# Altium footprint library GesturaGloveComponents.PcbLib: 12 footprints
Each footprint in its own frame and in the unit in brackets; x right, y up, seen from the top. Pads: shape width x height; smd on the part's side, far side on the other; paste and mask are expansions set on the pad; w line width, h text height; cw(c..) or ccw(c..) is an arc to the next point about the centre after c.
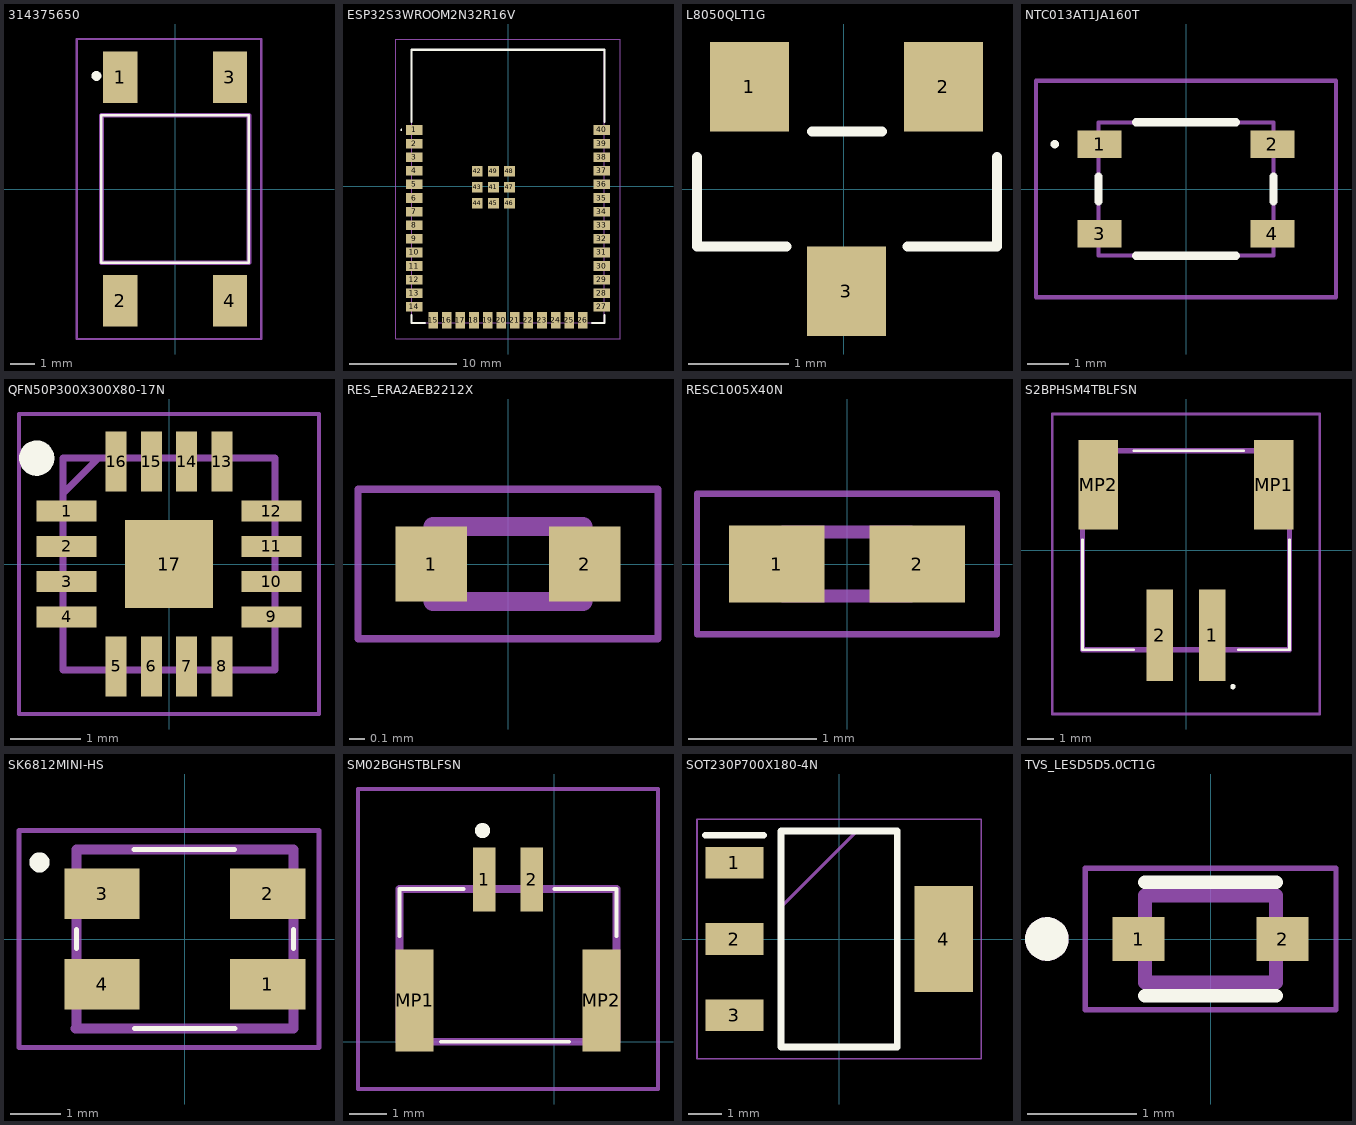
[diagram p0: the footprints below, top view; thin cyan lines are the x and y axes]

## 314375650 [mm]
pads (4):
  rect 1.4x2.1 smd: 1(-2.23,4.55) 2(-2.23,-4.55) 3(2.23,4.55) 4(2.23,-4.55)
Top Overlay:
  lines w0.1: -3,-3 3,-3 3,3 -3,3 -3,-3
  lines w0.2: -3.2,4.5 ccw(c-3.2,4.6) -3.2,4.7 ccw(c-3.2,4.6) -3.2,4.5
Mechanical 13:
  lines w0.2: -3,-3 3,-3 3,3 -3,3 -3,-3
Mechanical 15:
  lines w0.1: -4,-6.1 3.5,-6.1 3.5,6.1 -4,6.1 -4,-6.1
3D body "3-1437565-0.stp": height 4.38, standoff 0, extent -3,-5 3,5

## ESP32S3WROOM2N32R16V [mm]
pads (49):
  rect 1.5x0.9 smd: 1(-8.75,5.26) 2(-8.75,3.99) 3(-8.75,2.72) 4(-8.75,1.45) 5(-8.75,0.18) 6(-8.75,-1.09) 7(-8.75,-2.36) 8(-8.75,-3.63) 9(-8.75,-4.9) 10(-8.75,-6.17) 11(-8.75,-7.44) 12(-8.75,-8.71) 13(-8.75,-9.98) 14(-8.75,-11.25) 27(8.75,-11.25) 28(8.75,-9.98) 29(8.75,-8.71) 30(8.75,-7.44) 31(8.75,-6.17) 32(8.75,-4.9) 33(8.75,-3.63) 34(8.75,-2.36) 35(8.75,-1.09) 36(8.75,0.18) 37(8.75,1.45) 38(8.75,2.72) 39(8.75,3.99) 40(8.75,5.26)
  rect 0.9x1.5 smd: 15(-6.985,-12.5) 16(-5.715,-12.5) 17(-4.445,-12.5) 18(-3.175,-12.5) 19(-1.905,-12.5) 20(-0.635,-12.5) 21(0.635,-12.5) 22(1.905,-12.5) 23(3.175,-12.5) 24(4.445,-12.5) 25(5.715,-12.5) 26(6.985,-12.5)
  rect 1x1 smd: 41(-1.36,-0.09) 42(-2.86,1.41) 43(-2.86,-0.09) 44(-2.86,-1.59) 45(-1.36,-1.59) 46(0.14,-1.59) 47(0.14,-0.09) 48(0.14,1.41) 49(-1.36,1.41)
Top Overlay:
  lines w0.1: -10,5.26 ccw(c-9.95,5.26) -9.9,5.26 ccw(c-9.95,5.26) -10,5.26
  lines w0.2: -9,-12 -9,-12.75 -7.75,-12.75 ; -9,6 -9,12.75 9,12.75 9,6 ; 7.85,-12.75 9,-12.75 9,-12
Mechanical 15:
  lines w0.1: -9,-12.75 9,-12.75 9,12.75 -9,12.75 -9,-12.75
Mechanical 20:
  lines w0.1: -10.5,-14.25 10.5,-14.25 10.5,13.75 -10.5,13.75 -10.5,-14.25
3D body "ESP32-S3-WROOM-2-N32R8V.stp": height 3.25, standoff 0, extent -9,-12.75 9,12.75

## L8050QLT1G [mil]
pads (3):
  rect 31x35 smd paste+0 mask+4.02: 1(-37,40) 2(39,40) 3(1,-40)
Top Overlay:
  lines w3.94: -57.5,12.5 -57.5,-22.5 -22.5,-22.5 ; -12.5,22.5 15,22.5 ; 25,-22.5 60,-22.5 60,12.5
3D body "L8050QLT1G.STEP": height 44.09, standoff 0, extent -57.09,-46.65 57.09,46.65

## NTC013AT1JA160T [mm]
pads (4):
  rect 1.05x0.65 smd: 1(-2.075,1.075) 2(2.075,1.075) 3(-2.075,-1.075) 4(2.075,-1.075)
Top Overlay:
  lines w0.1: -3.2,1.075 cw(c-3.15,1.075) -3.1,1.075 cw(c-3.15,1.075) -3.2,1.075
  lines w0.2: -2.1,-0.3 -2.1,0.3 ; -1.2,-1.6 1.2,-1.6 ; -1.2,1.6 1.2,1.6 ; 2.1,-0.3 2.1,0.3
Mechanical 13:
  lines w0.1: -2.1,-1.6 -2.1,1.6 2.1,1.6 2.1,-1.6 -2.1,-1.6
Mechanical 15:
  lines w0.1: -3.6,-2.6 -3.6,2.6 3.6,2.6 3.6,-2.6 -3.6,-2.6
3D body "NTC013-AT1J-A160T.stp": height 2.8, standoff 0, extent -2.535,-1.6 2.535,1.6

## QFN50P300X300X80-17N [mm]
pads (17):
  rect 0.85x0.3 smd: 1(-1.45,0.75) 2(-1.45,0.25) 3(-1.45,-0.25) 4(-1.45,-0.75) 9(1.45,-0.75) 10(1.45,-0.25) 11(1.45,0.25) 12(1.45,0.75)
  rect 0.3x0.85 smd: 5(-0.75,-1.45) 6(-0.25,-1.45) 7(0.25,-1.45) 8(0.75,-1.45) 13(0.75,1.45) 14(0.25,1.45) 15(-0.25,1.45) 16(-0.75,1.45)
  rect 1.25x1.25 smd: 17(0,0)
Top Overlay:
  circle w0.25: c-1.875,1.5 r0.125
Mechanical 13:
  lines w0.1: -1.5,1 -1,1.5 ; -1.5,-1.5 1.5,-1.5 1.5,1.5 -1.5,1.5 -1.5,-1.5
Mechanical 15:
  lines w0.05: -2.125,-2.125 2.125,-2.125 2.125,2.125 -2.125,2.125 -2.125,-2.125
3D body "MAX98357AETE+T.stp": height 0.8, standoff 0, extent -1.55,-1.55 1.55,1.55

## RES_ERA2AEB2212X [mm]
pads (2):
  rect 0.475x0.5 smd: 1(-0.512,0) 2(0.512,0)
Mechanical 13:
  lines w0.127: -0.5,-0.25 -0.5,0.25 0.5,0.25 0.5,-0.25 -0.5,-0.25
Mechanical 15:
  lines w0.05: -1,-0.5 -1,0.5 1,0.5 1,-0.5 -1,-0.5
3D body "ERA2AEB1132X.stp": height 0.35, standoff 0, extent -0.5,-0.254 0.5,0.246

## RESC1005X40N [mm]
pads (2):
  rect 0.75x0.6 smd: 1(-0.55,0) 2(0.55,0)
Mechanical 13:
  lines w0.1: -0.5,-0.25 0.5,-0.25 0.5,0.25 -0.5,0.25 -0.5,-0.25
Mechanical 15:
  lines w0.05: -1.175,-0.55 1.175,-0.55 1.175,0.55 -1.175,0.55 -1.175,-0.55
3D body "RC0402FR-0730K9L.stp": height 0.4, standoff 0, extent -0.5,-0.25 0.5,0.25

## S2BPHSM4TBLFSN [mm]
pads (4):
  rect 1x3.5 smd: 1(1,-3.25) 2(-1,-3.25)
  rect 1.5x3.4 smd: MP1(3.35,2.5) MP2(-3.35,2.5)
Top Overlay:
  lines w0.1: -3.95,0.4 -3.95,-3.8 -2,-3.8 ; -2,3.8 2.2,3.8 ; 2,-3.8 3.95,-3.8 3.95,0.4 ; 1.742,-5.207 cw(c1.792,-5.207) 1.841,-5.207 cw(c1.792,-5.207) 1.742,-5.207
Mechanical 13:
  lines w0.2: -3.95,-3.8 -3.95,3.8 3.95,3.8 3.95,-3.8 -3.95,-3.8
Mechanical 15:
  lines w0.1: -5.1,-6.25 -5.1,5.2 5.1,5.2 5.1,-6.25 -5.1,-6.25
3D body "S2B-PH-SM4-TB_LF__SN_.stp": height 5.6, standoff 0, extent -3.95,-4.83 3.95,3.77

## SK6812MINI-HS [mm]
pads (4):
  rect 1.5x1 smd: 1(1.65,-0.9) 2(1.65,0.9) 3(-1.65,0.9) 4(-1.65,-0.9)
Top Overlay:
  lines w0.1: -2.159,-0.191 -2.159,0.191 ; -1.016,1.778 0.984,1.778 ; -1,-1.778 1,-1.778 ; 2.159,-0.191 2.159,0.191
  lines w0.2: -2.994,1.524 cw(c-2.894,1.524) -2.794,1.524 cw(c-2.894,1.524) -2.994,1.524
Mechanical 13:
  lines w0.2: -2.175,-1.778 -1.095,-1.778 1.064,-1.778 2.143,-1.778 ; -2.159,-1.778 -2.159,1.778 2.159,1.778 2.159,-1.778
Mechanical 15:
  lines w0.1: -3.302,-2.159 2.667,-2.159 2.667,2.159 1.175,2.159 -1.81,2.159 -3.302,2.159 -3.302,-2.159
3D body "SK6812MINI-012.STEP": height 1.1, standoff 0, extent -1.85,-1.75 1.85,1.75

## SM02BGHSTBLFSN [mm]
pads (4):
  rect 0.6x1.7 smd: 1(-1.85,4.3) 2(-0.6,4.3)
  rect 1x2.7 smd: MP1(-3.7,1.1) MP2(1.25,1.1)
Top Overlay:
  lines w0.1: -4.1,2.8 -4.1,4.05 -2.4,4.05 ; -3,0 0.4,0 ; 0,4.05 1.65,4.05 1.65,2.8
  lines w0.2: -2,5.6 cw(c-1.9,5.6) -1.8,5.6 cw(c-1.9,5.6) -2,5.6
Mechanical 13:
  lines w0.2: -4.1,0 -4.1,4.05 1.65,4.05 1.65,0 -4.1,0
Mechanical 15:
  lines w0.1: -5.2,-1.25 -5.2,6.7 2.75,6.7 2.75,-1.25 -5.2,-1.25
3D body "SM02B-GHS-TB_LF__SN_.stp": height 4.38, standoff -0.02, extent -4.105,-0.055 1.645,4.795

## SOT230P700X180-4N [mm]
pads (4):
  rect 1.75x0.95 smd: 1(-3.15,2.3) 2(-3.15,0) 3(-3.15,-2.3)
  rect 1.75x3.2 smd: 4(3.15,0)
Top Overlay:
  lines w0.2: -4.025,3.125 -2.275,3.125 ; -1.75,-3.25 1.75,-3.25 1.75,3.25 -1.75,3.25 -1.75,-3.25
Mechanical 13:
  lines w0.1: -1.75,0.95 0.55,3.25 ; -1.75,-3.25 1.75,-3.25 1.75,3.25 -1.75,3.25 -1.75,-3.25
Mechanical 15:
  lines w0.05: -4.275,-3.6 4.275,-3.6 4.275,3.6 -4.275,3.6 -4.275,-3.6
3D body "SGM2212-3.3XKC3G_TR.stp": height 1.8, standoff 0, extent -3.5,-3.25 3.5,3.25

## TVS_LESD5D5.0CT1G [mm]
height 0.7
pads (2):
  rect 0.48x0.4 smd: 1(-0.66,0) 2(0.66,0)
Top Overlay:
  circle w0.2: c-1.5,0 r0.1
  lines w0.127: -0.6,-0.52 0.6,-0.52 ; -0.6,0.52 0.6,0.52
Mechanical 13:
  circle w0.2: c-1.5,0 r0.1
  lines w0.127: -0.6,-0.4 -0.6,0.4 0.6,0.4 0.6,-0.4 -0.6,-0.4
Mechanical 15:
  lines w0.05: -1.15,-0.65 1.15,-0.65 1.15,0.65 -1.15,0.65 -1.15,-0.65
3D body "step_temp.STEP": height 0.7, standoff 0, extent -0.8,-0.4 0.8,0.4